# Altium footprint library 6_Pin_ScrewTerm.PcbLib: 1 footprints
Each footprint in its own frame and in the unit in brackets; x right, y up, seen from the top. Pads: shape width x height; smd on the part's side, far side on the other; paste and mask are expansions set on the pad; w line width, h text height; cw(c..) or ccw(c..) is an arc to the next point about the centre after c.
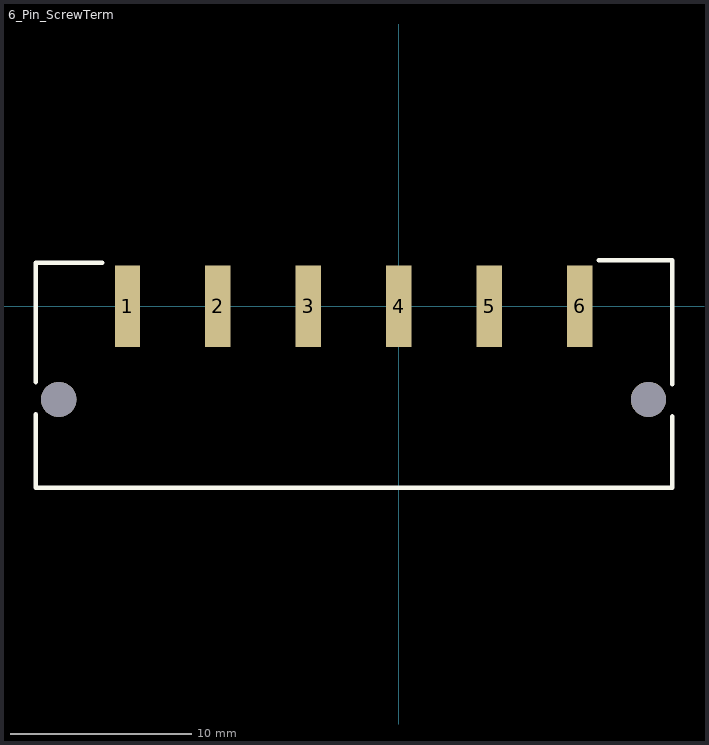
[diagram p0: the footprint, top view; thin cyan lines are the x and y axes]

## 6_Pin_ScrewTerm [mm]
pads (8):
  rect 1.4x4.5 smd: 1(-15,0) 2(-10,0) 3(-5,0) 5(5,0) 6(10,0)
  rect 1.4x4.5 smd mask+0.102: 4(0,0)
  round 1.95 hole 1.95: ""(-18.8,-5.15) ""(13.8,-5.15)
Top Overlay:
  lines w0.254: -20.066,-5.969 -20.066,-10.033 14.859,-10.033 15.113,-10.033 15.113,-6.096 ; -20.066,-4.191 -20.066,2.413 -16.383,2.413 ; 11.049,2.54 15.113,2.54 15.113,-4.318
3D body "691709710306 (rev1).stp": height 10.95, standoff -1.75, extent -19.59,-9.757 14.51,1.793